# Altium footprint library PCB - LEADED - SOT - ROHM SC-89-SOT-490.PCBLIB: 1 footprints
Each footprint in its own frame and in the unit in brackets; x right, y up, seen from the top. Pads: shape width x height; smd on the part's side, far side on the other; paste and mask are expansions set on the pad; w line width, h text height; cw(c..) or ccw(c..) is an arc to the next point about the centre after c.
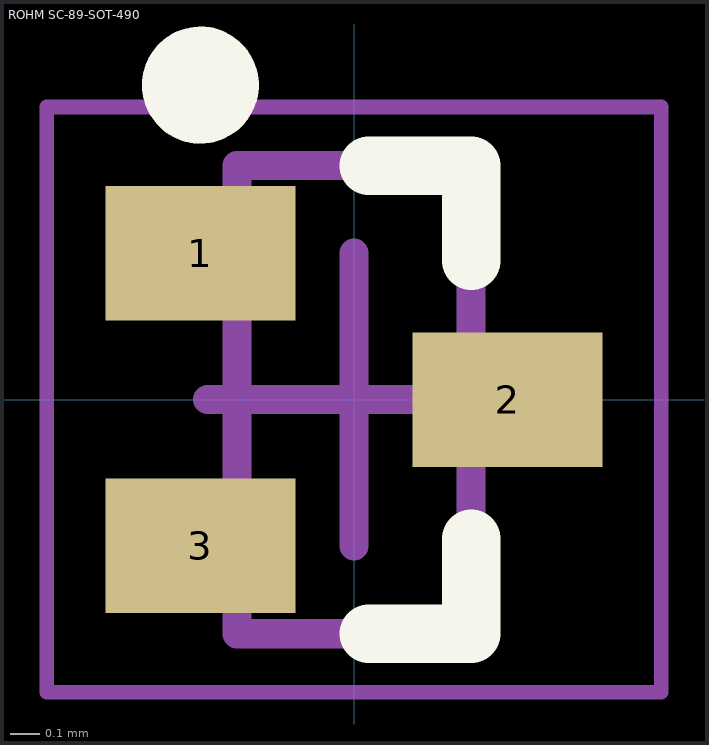
[diagram p0: the footprint, top view; thin cyan lines are the x and y axes]

## ROHM SC-89-SOT-490 [mm] "SC-89(SOT-490), 3-Leads, Body 0.8x1.60mm, Pitch 0.50mm, IPC Medium Density"
height 0.85
pads (3):
  rect 0.65x0.46 smd: 1(-0.525,0.5) 2(0.525,0) 3(-0.525,-0.5)
Top Overlay:
  circle w0.2: c-0.525,1.075 r0.1
  lines w0.2: 0.05,-0.8 0.4,-0.8 0.4,-0.475 ; 0.05,0.8 0.4,0.8 0.4,0.475
Mechanical 13:
  lines w0.1: -0.4,-0.8 -0.4,0.8 0.4,0.8 0.4,-0.8 -0.4,-0.8
Mechanical 15:
  lines w0.05: -1.05,-1 1.05,-1 1.05,1 -1.05,1 -1.05,-1
  lines w0.1: -0.5,0 0.5,0 ; 0,-0.5 0,0.5
3D body "SC-89 SOT-490 SOT-416FL.step": height 0.85, standoff 0, extent -0.8,-0.8 0.8,0.8